# Altium footprint library MPU6050.PcbLib: 1 footprints
Each footprint in its own frame and in the unit in brackets; x right, y up, seen from the top. Pads: shape width x height; smd on the part's side, far side on the other; paste and mask are expansions set on the pad; w line width, h text height; cw(c..) or ccw(c..) is an arc to the next point about the centre after c.
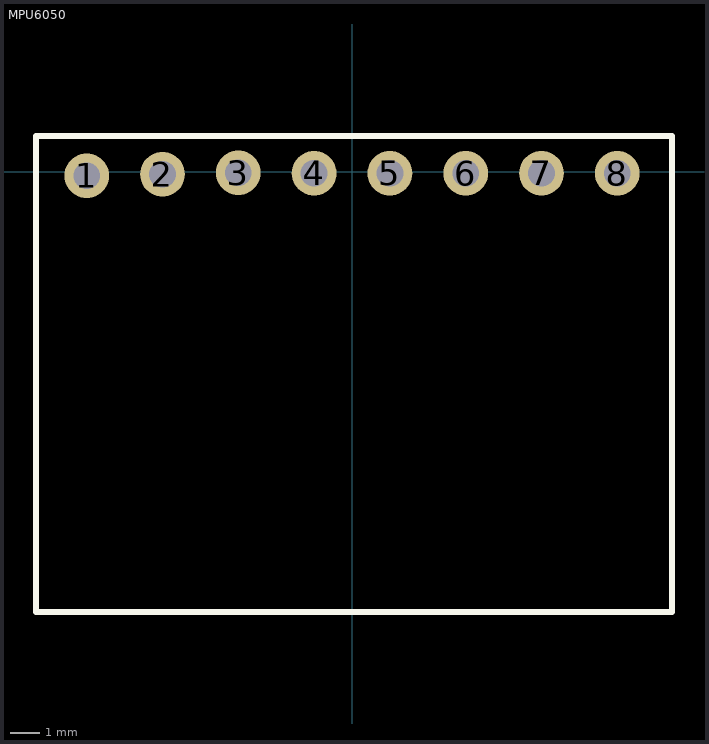
[diagram p0: the footprint, top view; thin cyan lines are the x and y axes]

## MPU6050 [mm]
pads (8):
  round 1.5 hole 0.9: 1(-8.895,-0.13) 2(-6.355,-0.08) 3(-3.815,-0.03) 4(-1.275,-0.05) 5(1.265,-0.05) 6(3.805,-0.05) 7(6.345,-0.05) 8(8.885,-0.05)
Top Overlay:
  lines w0.2: -10.6,-14.75 10.725,-14.75 10.725,1.2 -10.6,1.2 -10.6,-14.75
3D body "User Library-MPU 6050 IMU.STEP": height 6.14, standoff -5.03, extent -10.48,-14.647 10.628,1.228